# Altium schematic symbol library NeoPixel.SchLib: 1 symbol
Pins are listed as number, name and electrical type; pins without a type are passive.

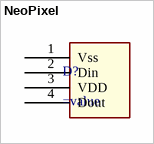
[diagram p0: symbol NeoPixel]

## NeoPixel
designator D?
pins: 1 Vss, 2 Din, 3 VDD, 4 Dout